# Altium schematic symbol library Connector.SchLib: 1 symbol
Pins are listed as number, name and electrical type; pins without a type are passive.

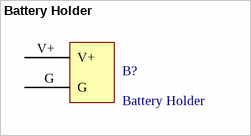
[diagram p0: symbol Battery Holder]

## Battery Holder
designator B?
footprint Battery Holder
pins: G (power), V+ (power)